# EAGLE library part COLOR_LCD_MODULE (library darknet_parts_library)
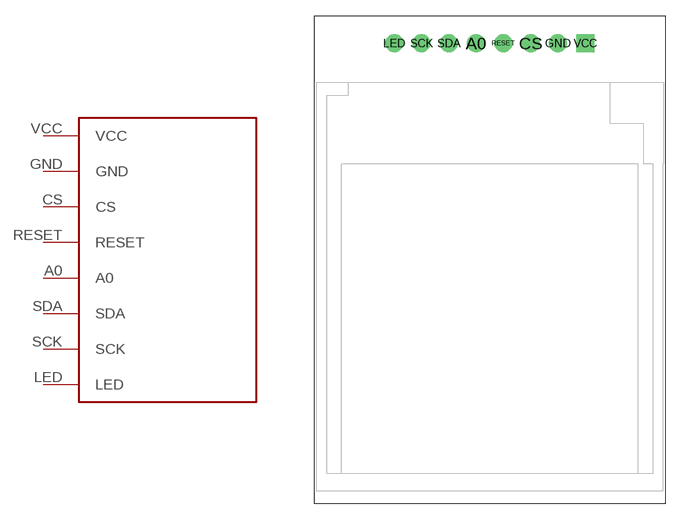
[diagram p0: symbol with the pads of COLOR_LCD_DISPLAY; footprint COLOR_LCD_DISPLAY]

Designator prefix -

## COLOR_LCD_MODULE  [COLOR_LCD_DISPLAY]
A0  A0
CS  CS
GND  GND
LED  LED
RESET  RESET
SCK  SCK
SDA  SDA
VCC  VCC

## Footprint COLOR_LCD_DISPLAY (pad centres in mm)
drill 1 pad 1.676: A0 -1.27,0; CS 3.81,0; GND 6.35,0; LED -8.89,0; RESET 1.27,0; SCK -6.35,0; SDA -3.81,0
drill 1 pad 1.676 square: VCC 8.89,0